# Altium schematic symbol library toaster.SchLib: 19 symbols
Pins are listed as number, name and electrical type; pins without a type are passive.

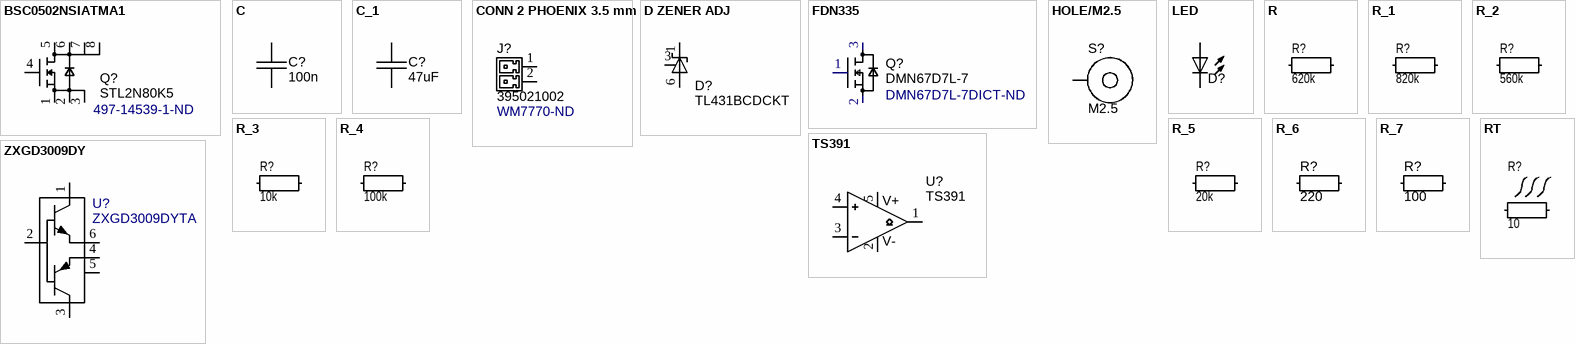
[diagram p0: symbols BSC0502NSIATMA1 to ZXGD3009DY]

## BSC0502NSIATMA1
designator Q?, comment STL2N80K5  Supplier Part Number 1: 497-14539-1-ND
MOSFET N-CH 800V 2A POWERFLATN-Channel 800 V 2A (Tc) 33W (Tc) Surface Mount PowerFlat™ (5x6); Value: STL2N80K5; Supplier 1: Digi-Key
footprint PG-TDSON-8_INF
pins: 1 S, 2 S, 3 S, 4 Gate, 5 D, 6 D, 7 D, 8 D

## C
designator C?, comment 100n
Chip Capacitor; Voltage: 16V; Dielectric: X7R; Supplier 2 Part Number: 1292-1393-1-ND; Supplier 2: Digi-Key
footprint SM/C0603 (Chip Capacitor, Body 1.6x0.8mm, IPC Low Density)
pins: 1, 2

## C_1
designator C?, comment 47uF
Chip Capacitor; Voltage: 16V; Dielectric: X7R; Supplier 2 Part Number: 1292-1393-1-ND; Supplier 2: Digi-Key
footprint SM/C0603 (Chip Capacitor, Body 1.6x0.8mm, IPC Low Density)
pins: 1, 2

## CONN 2 PHOENIX 3.5 mm
designator J?, comment 395021002  Supplier Part Number 1: WM7770-ND
TERM BLOCK HDR 2POS 90DEG 3.5MM BLACK; Imax: 8A; Supplier 1: Digi-Key
footprint CONN2/PHOENIX/MC 1.5-2-G-3.5-BLACK
pins: 1, 2

## D ZENER ADJ
designator D?, comment TL431BCDCKT
IC VREF SHUNT ADJ 0.5% SC70-6; Supplier 1: Digi-Key; Value: TL431BCDCKT; Supplier Part Number 1: 296-TL431BCDCKTCT-ND
footprint SC70-6 (SOT363, 6-Leads, Body 2x1.3mm, Pitch 0.65mm, Lead Span 2.1mm, IPC Low Density)
pins: 1 Cathode, 3 Ref, 6 Anode

## FDN335
designator Q?, comment DMN67D7L-7  Supplier Part Number 1: DMN67D7L-7DICT-ND
MOSFET N-CH 60V 210MA SOT23-3; Value: DMN67D7L-7; Supplier 1: Digi-Key
footprint SOT23-3 (SOT23, 3-Leads, Body 3.0x2.6mm (max), Pitch 0.95mm, IPC Low Density)
pins: 1 G, 2 S, 3 D

## HOLE/M2.5
designator S?, comment M2.5  (no BOM)
footprint HW/HOLE/M2.5/VIA
pins: 1

## LED
designator D?
Supplier 1: Digi-Key; Supplier Part Number 1: 492-1325-1-ND
footprint SM/LED0603 (Chip Capacitor, Body 1.6x0.8mm, IPC Low Density)
pins: 1, 2

## R
designator R?, comment 620k
Chip Resistor SMD
simulation model RES (Default semiconductor resistor)
footprint SM/R0805 (Chip Resistor, Body 2.0x1.3mm, IPC Low Density)
pins: 1, 2

## R_1
designator R?, comment 820k
Chip Resistor SMD
simulation model RES (Default semiconductor resistor)
footprint SM/R0805 (Chip Resistor, Body 2.0x1.3mm, IPC Low Density)
pins: 1, 2

## R_2
designator R?, comment 560k
Chip Resistor SMD
simulation model RES (Default semiconductor resistor)
footprint SM/R0805 (Chip Resistor, Body 2.0x1.3mm, IPC Low Density)
pins: 1, 2

## R_3
designator R?, comment 10k
Chip Resistor SMD
simulation model RES (Default semiconductor resistor)
footprint SM/R0805 (Chip Resistor, Body 2.0x1.3mm, IPC Low Density)
pins: 1, 2

## R_4
designator R?, comment 100k
Chip Resistor SMD
simulation model RES (Default semiconductor resistor)
footprint SM/R0805 (Chip Resistor, Body 2.0x1.3mm, IPC Low Density)
pins: 1, 2

## R_5
designator R?, comment 20k
Chip Resistor SMD
simulation model RES (Default semiconductor resistor)
footprint SM/R0805 (Chip Resistor, Body 2.0x1.3mm, IPC Low Density)
pins: 1, 2

## R_6
designator R?, comment 220
Chip Resistor SMD
simulation model RES (Default semiconductor resistor)
footprint SM/R0603 (Chip Resistor, Body 1.6x0.8mm, IPC Low Density)
pins: 1, 2

## R_7
designator R?, comment 100
Chip Resistor SMD
simulation model RES (Default semiconductor resistor)
footprint SM/R0603 (Chip Resistor, Body 1.6x0.8mm, IPC Low Density)
pins: 1, 2

## RT
designator R?, comment 10
Chip Resistor SMD; Supplier 1: Digi-Key; Supplier Part Number 1: RW5S0FA10R0JE-ND
simulation model RES (Default semiconductor resistor)
footprint SM/R0805 (Chip Resistor, Body 2.0x1.3mm, IPC Low Density)
footprint RW5S0FA
pins: 1, 2

## TS391
designator U?
Supplier 1: Digi-Key; Value: TS391; Supplier Part Number 1: TS391SN2T1GOSCT-ND
footprint SOT23-5 (SOT23, 5-Leads, Body 3.0x2.6mm (max), Pitch 0.95mm, IPC Low Density)
pins: 1 OUT, 2 V-, 3 IN-, 4 IN+, 5 V+

## ZXGD3009DY
designator U?, comment ZXGD3009DYTA
IC GATE DRVR LOW-SIDE SOT363; Value: ZXGD3009DYTA; Supplier 1: Digi-Key; Supplier Part Number 1: ZXGD3009DYTADICT-ND
footprint SC70-6 (SOT363, 6-Leads, Body 2x1.3mm, Pitch 0.65mm, Lead Span 2.1mm, IPC Low Density)
pins: 1 VCC, 2 IN, 3 VEE, 4 SINK, 5 SINK, 6 SOURCE